# Altium footprint library pulser_driver_footprints.PcbLib: 55 footprints (part 2 of 4)
Each footprint in its own frame and in the unit in brackets; x right, y up, seen from the top. Pads: shape width x height; smd on the part's side, far side on the other; paste and mask are expansions set on the pad; w line width, h text height; cw(c..) or ccw(c..) is an arc to the next point about the centre after c.
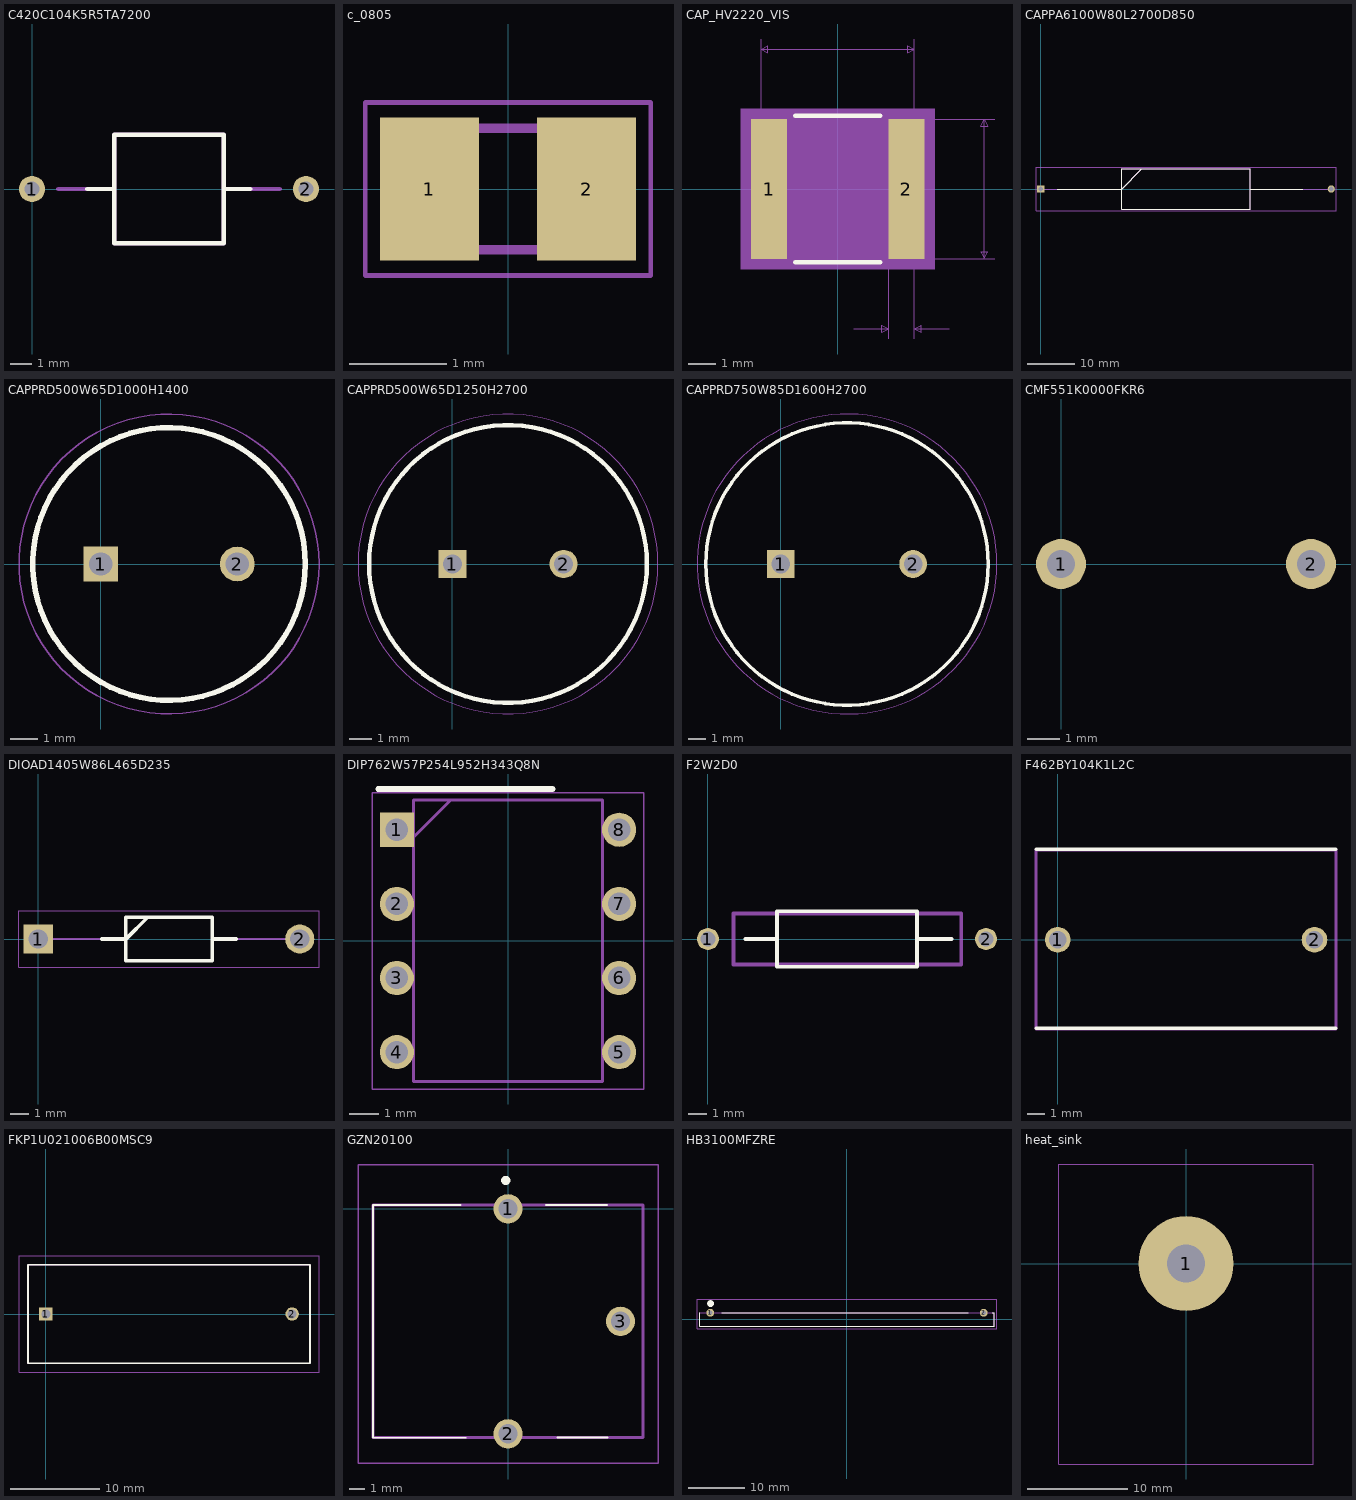
[diagram p1: the footprints below, top view; thin cyan lines are the x and y axes]

## C420C104K5R5TA7200 [mm]
pads (2):
  round 1.2 hole 0.7: 1(0,0) 2(12.6,0)
Top Overlay:
  lines w0.2: 2.54,0 3.775,0 ; 8.825,0 10.033,0 ; 3.775,0 3.775,2.5 8.825,2.5 8.825,-2.5 3.775,-2.5 3.775,0
Mechanical 15:
  lines w0.2: 1.199,0 3.774,0 ; 8.824,0 11.399,0 ; 3.774,0 3.774,2.5 8.824,2.5 8.824,-2.5 3.774,-2.5 3.774,0
3D body: height 5.21, standoff 0.13, extent 3.81,-2.54 8.89,2.54

## c_0805 [mm]
pads (2):
  rect 1.02x1.47 smd: 1(-0.81,0) 2(0.81,0)
Mechanical 13:
  lines w0.1: -1.005,-0.625 1.005,-0.625 1.005,0.625 -1.005,0.625 -1.005,-0.625
Mechanical 15:
  lines w0.05: -1.47,-0.89 1.47,-0.89 1.47,0.89 -1.47,0.89 -1.47,-0.89
3D body "08055C331KAT2A.stp": height 0.94, standoff 0, extent -1.005,-0.625 1.005,0.625

## CAP_HV2220_VIS [mil]
pads (2):
  rect 51x200 smd paste+0 mask+0: 1(-98.5,0) 2(98.5,0)
Top Overlay:
  lines w6: -60.89,-105 60.89,-105 ; -60.89,105 60.89,105
Mechanical 5:
  region: 139,-115 -139,-115 -139,115 139,115
Mechanical 7:
  lines w1: -110,0 -110,215 ; 0,-100 225,-100 ; 0,100 225,100 ; 23,-200 73,-200 ; 73,-215 73,0 ; 110,-215 110,0 110,215 ; 160,-200 110,-200 ; -110,200 110,200 ; -110,200 -100,205 -100,195 -110,200 ; 73,-200 63,-195 63,-205 73,-200 ; 110,-200 120,-195 120,-205 110,-200 ; 110,200 100,205 100,195 110,200 ; 210,-100 210,100 ; 210,-100 205,-90 215,-90 210,-100 ; 210,100 205,90 215,90 210,100
  text "Default Padstyle: RX51Y200D0T" at -362.5,-370 h50
  text "Alternate 1 Padstyle: OX60Y90D30P" at -412.5,-470 h50
  text "Alternate 2 Padstyle: OX90Y60D30P" at -412.5,-570 h50
  text "0.2in/5.08mm" at 230,-12.5 h25
  text "0.22in/5.588mm" at -87.5,220 h25
  text "0.037in/0.94mm" at 4,-245 h25
Mechanical 13:
  lines w1: -110,-100 -110,100 ; -110,-100 -73,-100 -73,100 -110,100 ; -110,-100 110,-100 ; -110,-100 -110,100 ; -110,100 110,100 ; 110,-100 73,-100 73,100 110,100 ; 110,-100 110,100 ; 110,-100 110,100
Mechanical 15:
  region: 134,-110 -134,-110 -134,110 134,110
  lines w6: -134,-110 -134,110 134,110 134,-110 -134,-110
3D body "CAP_HV2220_VIS.step": height 105.98, standoff 0, extent -110,-100 110,100

## CAPPA6100W80L2700D850 [mm]
pads (2):
  rect 1.5x1.5 hole 1: 1(0,0)
  round 1.5 hole 1: 2(61,0)
Top Overlay:
  lines w0.2: 3.429,0 17,0 21.25,4.25 ; 44,0 54.991,0 ; 17,-4.25 44,-4.25 44,4.25 17,4.25 17,-4.25
Mechanical 13:
  lines w0.1: 0,0 17,0 21.25,4.25 ; 44,0 61,0 ; 17,-4.25 44,-4.25 44,4.25 17,4.25 17,-4.25
Mechanical 15:
  lines w0.05: -1,-4.6 62,-4.6 62,4.6 -1,4.6 -1,-4.6
3D body "PWS2152100KG.stp": height 10.5, standoff -10.5, extent -0.397,-5.246 61.4,5.246

## CAPPRD500W65D1000H1400 [mm]
pads (2):
  rect 1.275x1.275 hole 0.85: 1(0,0)
  round 1.275 hole 0.85: 2(5,0)
Top Overlay:
  circle w0.2: c2.5,0 r5
Mechanical 13:
  circle w0.1: c2.5,0 r5
Mechanical 15:
  circle w0.05: c2.5,0 r5.5
3D body "EEU-TP1V121.stp": height 14, standoff -10, extent -2.75,-5.247 7.75,5.247

## CAPPRD500W65D1250H2700 [mm]
pads (2):
  rect 1.275x1.275 hole 0.85: 1(0,0)
  round 1.275 hole 0.85: 2(5,0)
Top Overlay:
  circle w0.2: c2.5,0 r6.25
Mechanical 13:
  circle w0.1: c2.5,0 r6.25
Mechanical 15:
  circle w0.05: c2.5,0 r6.75
3D body "EEU-FS2A221B.stp": height 27.51, standoff -9.49, extent -4,-6.5 9,6.5

## CAPPRD750W85D1600H2700 [mm]
pads (2):
  rect 1.575x1.575 hole 1.05: 1(0,0)
  round 1.575 hole 1.05: 2(7.5,0)
Top Overlay:
  circle w0.2: c3.75,0 r8
Mechanical 13:
  circle w0.1: c3.75,0 r8
Mechanical 15:
  circle w0.05: c3.75,0 r8.5
3D body "EEU-FC2A221.stp": height 27, standoff -10, extent -4.5,-8.25 12,8.25

## CMF551K0000FKR6 [mil]
pads (2):
  round 60 hole 33.5: 1(0,0) 2(300,0)

## DIOAD1405W86L465D235 [mm]
pads (2):
  rect 1.575x1.575 hole 1.05: 1(0,0)
  round 1.575 hole 1.05: 2(14.1,0)
Top Overlay:
  lines w0.2: 3.429,0 4.725,0 5.9,1.175 ; 9.375,0 10.668,0 ; 4.725,-1.175 4.725,1.175 9.375,1.175 9.375,-1.175 4.725,-1.175
Mechanical 13:
  lines w0.1: 0,0 4.725,0 5.9,1.175 ; 9.375,0 14.1,0 ; 4.725,-1.175 4.725,1.175 9.375,1.175 9.375,-1.175 4.725,-1.175
Mechanical 15:
  lines w0.05: -1.038,-1.525 -1.038,1.525 15.137,1.525 15.137,-1.525 -1.038,-1.525
3D body "1N5819-E3_54.stp": height 2.69, standoff -2.7, extent -0.427,-1.347 14.48,1.347

## DIP762W57P254L952H343Q8N [mm]
pads (8):
  rect 1.17x1.17 hole 0.77: 1(-3.81,3.81)
  round 1.17 hole 0.77: 2(-3.81,1.27) 3(-3.81,-1.27) 4(-3.81,-3.81) 5(3.81,-3.81) 6(3.81,-1.27) 7(3.81,1.27) 8(3.81,3.81)
Top Overlay:
  lines w0.2: -4.445,5.207 1.524,5.207
Mechanical 13:
  lines w0.1: -3.24,3.555 -1.97,4.825 ; -3.24,-4.825 -3.24,4.825 3.24,4.825 3.24,-4.825 -3.24,-4.825
Mechanical 15:
  lines w0.05: -4.645,-5.075 -4.645,5.075 4.645,5.075 4.645,-5.075 -4.645,-5.075
3D body "MIC4452YN.stp": height 3.43, standoff -3.5, extent -3.952,-4.763 3.952,4.763

## F2W2D0 [mm]
pads (2):
  round 1.2 hole 0.8: 1(0,0) 2(15.2,0)
Top Overlay:
  lines w0.2: 2.032,0 3.775,0 ; 11.425,0 13.335,0 ; 3.775,0 3.775,1.524 11.425,1.524 11.425,-1.524 3.775,-1.524 3.775,0
Mechanical 15:
  lines w0.203: 1.397,-1.397 13.843,-1.397 13.843,1.397 1.397,1.397 1.397,-1.397
3D body "YAG_MF25_YAG.step": height 2.61, standoff -2.79, extent 1.473,-1.306 13.767,1.306

## F462BY104K1L2C [mil]
pads (2):
  round 59 hole 39.37: 1(0,0) 2(590.55,0)
Top Overlay:
  lines w7.87: -50,-203.43 640,-203.43 ; -50,208.43 640,208.43
Mechanical 15:
  lines w7.87: -50,-205 -50,206.85 640,206.85 640,-205 -50,-205
3D body "F462BY104K1L2C.step": height 708.66, standoff -255.91, extent -49.49,-205.58 639.49,208

## FKP1U021006B00MSC9 [mm]
pads (2):
  rect 1.5x1.5 hole 1: 1(0,0)
  round 1.5 hole 1: 2(27.5,0)
Top Overlay:
  lines w0.2: -2,5.25 -2,5.5 ; -2,5.5 29.5,5.5 29.5,-5.5 -2,-5.5 -2,5.5
Mechanical 13:
  lines w0.1: -2,-5.5 -2,5.5 29.5,5.5 29.5,-5.5 -2,-5.5
Mechanical 15:
  lines w0.1: -3,-6.5 -3,6.5 30.5,6.5 30.5,-6.5 -3,-6.5
3D body "FKP1U021006B00MSC9.stp": height 21.1, standoff -5, extent -2,-5.5 29.5,5.5

## GZN20100 [mm]
pads (3):
  round 1.95 hole 1.3: 1(0,0) 2(0,-15) 3(7.5,-7.5)
Top Overlay:
  lines w0.1: -3.175,0.254 -9,0.25 -9,-15.25 -2.794,-15.25 ; 2.54,0.254 6.62,0.256 ; 3.302,-15.24 6.642,-15.251
  lines w0.127: -9,-15.25 -9,0.25 -3.175,0.254 ; 2.54,0.254 6.62,0.256 ; 3.302,-15.24 6.642,-15.251
  lines w0.508: -0.2,1.9 ccw(c-0.15,1.9) -0.1,1.9 ; -0.2,1.9 cw(c-0.15,1.9) -0.1,1.9 ; -0.2,1.9 ccw(c-0.15,1.9) -0.1,1.9
Mechanical 13:
  lines w0.2: -9,-15.25 -9,0.25 9,0.25 9,-15.25 -9,-15.25
Mechanical 15:
  lines w0.1: -10,-16.975 -10,2.95 10,2.95 10,-16.975 -10,-16.975
3D body "GZN20100.stp": height 17.1, standoff -5, extent -9,-15.549 9,0.549

## HB3100MFZRE [mm]
pads (2):
  round 1.381 hole 0.85: 1(-24.15,1.175) 2(24.15,1.175)
Top Overlay:
  lines w0.1: -26,1.2 -26,-1.175 -25.8,-1.175 26,-1.175 26,1.2 25.654,1.2 ; -22.098,1.143 21.463,1.143
  lines w0.6: -24.4,2.8 ccw(c-24.1,2.8) -23.8,2.8 ccw(c-24.1,2.8) -24.4,2.8
Mechanical 13:
  lines w0.2: -26,-1.175 -26,1.175 26,1.175 26,-1.175 -26,-1.175
Mechanical 15:
  lines w0.1: -26.5,-1.675 -26.5,3.6 26.5,3.6 26.5,-1.675 -26.5,-1.675

## heat_sink [mm]
pads (1):
  round 9.5 / inner round 1.2 / far side round 9.5 hole 3.82: 1(0,0)
Mechanical 1:
  lines w0.05: -12.7,-20.025 -12.7,9.945 12.7,9.945 12.7,-20.025 -12.7,-20.025
3D body: height 12.7, standoff 0.05, extent -12.7,-20.025 12.7,9.95